# Altium schematic symbol library WE-LQS.SchLib: 214 symbols (part 3 of 4)
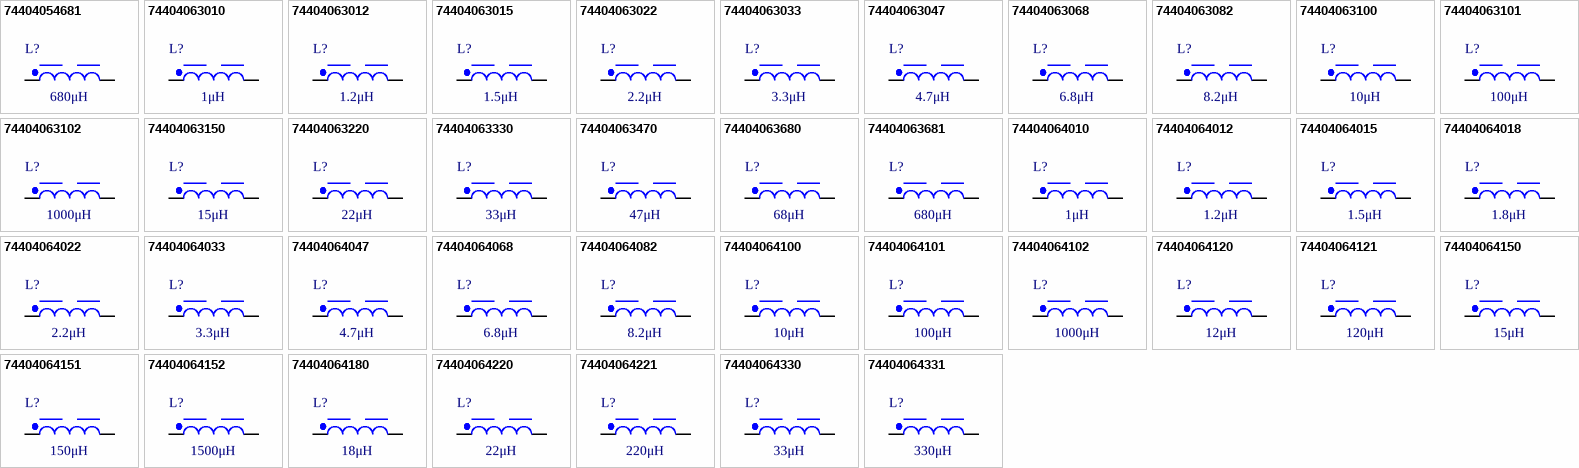
[diagram p7: symbols 74404054681 to 74404064331]

## 74404054681
designator L?, comment 680μH
WE-LQS SMT Power Inductor, size 5040, 680μH, 3.98Ω; Manufacturer Part Number: 74404054681; Manufacturer: Wurth Elektronik; Case/Size Code: 5040; Rated Current: 0.25A; Saturation Current: 0.3A; Self Resonant Frequency: 2.3MHz; Category: Power Inductors; Match Code: WE-LQS; ComponentLink1Description: Website Link; ComponentLink1URL: https://www.we-online.com/redexpert/article/74404054681?ad; ComponentLink2Description: Datasheet Link; ComponentLink2URL: https://www.we-online.com/redexpert/spec/74404054681?ad; Mount: Surface Mount; Min Operating Temperature: -40°C; Max Operating Temperature: 125°C; Packaging: Tape and Reel; Length: 5mm; Width: 5mm; Height: 4mm; DC Resistance: 3.98Ω; Inductance: 680μH
footprint WE-LQS_5040
simulation model 5040_74404054681_680u
pins: 1, 2

## 74404063010
designator L?, comment 1μH
WE-LQS SMT Power Inductor, size 6028, 1μH, 0.01Ω; Manufacturer Part Number: 74404063010; Manufacturer: Wurth Elektronik; Case/Size Code: 6028; Rated Current: 5.2A; Saturation Current: 7.5A; Self Resonant Frequency: 130MHz; Category: Power Inductors; Match Code: WE-LQS; ComponentLink1Description: Website Link; ComponentLink1URL: https://www.we-online.com/redexpert/article/74404063010?ad; ComponentLink2Description: Datasheet Link; ComponentLink2URL: https://www.we-online.com/redexpert/spec/74404063010?ad; Mount: Surface Mount; Min Operating Temperature: -40°C; Max Operating Temperature: 125°C; Packaging: Tape and Reel; Length: 6mm; Width: 6mm; Height: 2.8mm; DC Resistance: 0.01Ω; Inductance: 1μH
footprint WE-LQS_6028
simulation model 6028_74404063010_1u
pins: 1, 2

## 74404063012
designator L?, comment 1.2μH
WE-LQS SMT Power Inductor, size 6028, 1.2μH, 0.012Ω; Manufacturer Part Number: 74404063012; Manufacturer: Wurth Elektronik; Case/Size Code: 6028; Rated Current: 4.7A; Saturation Current: 7.3A; Self Resonant Frequency: 106MHz; Category: Power Inductors; Match Code: WE-LQS; ComponentLink1Description: Website Link; ComponentLink1URL: https://www.we-online.com/redexpert/article/74404063012?ad; ComponentLink2Description: Datasheet Link; ComponentLink2URL: https://www.we-online.com/redexpert/spec/74404063012?ad; Mount: Surface Mount; Min Operating Temperature: -40°C; Max Operating Temperature: 125°C; Packaging: Tape and Reel; Length: 6mm; Width: 6mm; Height: 2.8mm; DC Resistance: 0.012Ω; Inductance: 1.2μH
footprint WE-LQS_6028
simulation model 6028_74404063012_1.2u
pins: 1, 2

## 74404063015
designator L?, comment 1.5μH
WE-LQS SMT Power Inductor, size 6028, 1.5μH, 0.013Ω; Manufacturer Part Number: 74404063015; Manufacturer: Wurth Elektronik; Case/Size Code: 6028; Rated Current: 4.58A; Saturation Current: 6.6A; Self Resonant Frequency: 98MHz; Category: Power Inductors; Match Code: WE-LQS; ComponentLink1Description: Website Link; ComponentLink1URL: https://www.we-online.com/redexpert/article/74404063015?ad; ComponentLink2Description: Datasheet Link; ComponentLink2URL: https://www.we-online.com/redexpert/spec/74404063015?ad; Mount: Surface Mount; Min Operating Temperature: -40°C; Max Operating Temperature: 125°C; Packaging: Tape and Reel; Length: 6mm; Width: 6mm; Height: 2.8mm; DC Resistance: 0.013Ω; Inductance: 1.5μH
footprint WE-LQS_6028
simulation model 6028_74404063015_1.5u
pins: 1, 2

## 74404063022
designator L?, comment 2.2μH
WE-LQS SMT Power Inductor, size 6028, 2.2μH, 0.02Ω; Manufacturer Part Number: 74404063022; Manufacturer: Wurth Elektronik; Case/Size Code: 6028; Rated Current: 3.75A; Saturation Current: 5.6A; Self Resonant Frequency: 69MHz; Category: Power Inductors; Match Code: WE-LQS; ComponentLink1Description: Website Link; ComponentLink1URL: https://www.we-online.com/redexpert/article/74404063022?ad; ComponentLink2Description: Datasheet Link; ComponentLink2URL: https://www.we-online.com/redexpert/spec/74404063022?ad; Mount: Surface Mount; Min Operating Temperature: -40°C; Max Operating Temperature: 125°C; Packaging: Tape and Reel; Length: 6mm; Width: 6mm; Height: 2.8mm; DC Resistance: 0.02Ω; Inductance: 2.2μH
footprint WE-LQS_6028
simulation model 6028_74404063022_2.2u
pins: 1, 2

## 74404063033
designator L?, comment 3.3μH
WE-LQS SMT Power Inductor, size 6028, 3.3μH, 0.025Ω; Manufacturer Part Number: 74404063033; Manufacturer: Wurth Elektronik; Case/Size Code: 6028; Rated Current: 3.48A; Saturation Current: 4.5A; Self Resonant Frequency: 59MHz; Category: Power Inductors; Match Code: WE-LQS; ComponentLink1Description: Website Link; ComponentLink1URL: https://www.we-online.com/redexpert/article/74404063033?ad; ComponentLink2Description: Datasheet Link; ComponentLink2URL: https://www.we-online.com/redexpert/spec/74404063033?ad; Mount: Surface Mount; Min Operating Temperature: -40°C; Max Operating Temperature: 125°C; Packaging: Tape and Reel; Length: 6mm; Width: 6mm; Height: 2.8mm; DC Resistance: 0.025Ω; Inductance: 3.3μH
footprint WE-LQS_6028
simulation model 6028_74404063033_3.3u
pins: 1, 2

## 74404063047
designator L?, comment 4.7μH
WE-LQS SMT Power Inductor, size 6028, 4.7μH, 0.03Ω; Manufacturer Part Number: 74404063047; Manufacturer: Wurth Elektronik; Case/Size Code: 6028; Rated Current: 3.08A; Saturation Current: 3.3A; Self Resonant Frequency: 50MHz; Category: Power Inductors; Match Code: WE-LQS; ComponentLink1Description: Website Link; ComponentLink1URL: https://www.we-online.com/redexpert/article/74404063047?ad; ComponentLink2Description: Datasheet Link; ComponentLink2URL: https://www.we-online.com/redexpert/spec/74404063047?ad; Mount: Surface Mount; Min Operating Temperature: -40°C; Max Operating Temperature: 125°C; Packaging: Tape and Reel; Length: 6mm; Width: 6mm; Height: 2.8mm; DC Resistance: 0.03Ω; Inductance: 4.7μH
footprint WE-LQS_6028
simulation model 6028_74404063047_4.7u
pins: 1, 2

## 74404063068
designator L?, comment 6.8μH
WE-LQS SMT Power Inductor, size 6028, 6.8μH, 0.047Ω; Manufacturer Part Number: 74404063068; Manufacturer: Wurth Elektronik; Case/Size Code: 6028; Rated Current: 2.4A; Saturation Current: 2.8A; Self Resonant Frequency: 40MHz; Category: Power Inductors; Match Code: WE-LQS; ComponentLink1Description: Website Link; ComponentLink1URL: https://www.we-online.com/redexpert/article/74404063068?ad; ComponentLink2Description: Datasheet Link; ComponentLink2URL: https://www.we-online.com/redexpert/spec/74404063068?ad; Mount: Surface Mount; Min Operating Temperature: -40°C; Max Operating Temperature: 125°C; Packaging: Tape and Reel; Length: 6mm; Width: 6mm; Height: 2.8mm; DC Resistance: 0.047Ω; Inductance: 6.8μH
footprint WE-LQS_6028
simulation model 6028_74404063068_6.8u
pins: 1, 2

## 74404063082
designator L?, comment 8.2μH
WE-LQS SMT Power Inductor, size 6028, 8.2μH, 0.055Ω; Manufacturer Part Number: 74404063082; Manufacturer: Wurth Elektronik; Case/Size Code: 6028; Rated Current: 2.25A; Saturation Current: 2.5A; Self Resonant Frequency: 33MHz; Category: Power Inductors; Match Code: WE-LQS; ComponentLink1Description: Website Link; ComponentLink1URL: https://www.we-online.com/redexpert/article/74404063082?ad; ComponentLink2Description: Datasheet Link; ComponentLink2URL: https://www.we-online.com/redexpert/spec/74404063082?ad; Mount: Surface Mount; Min Operating Temperature: -40°C; Max Operating Temperature: 125°C; Packaging: Tape and Reel; Length: 6mm; Width: 6mm; Height: 2.8mm; DC Resistance: 0.055Ω; Inductance: 8.2μH
footprint WE-LQS_6028
simulation model 6028_74404063082_8.2u
pins: 1, 2

## 74404063100
designator L?, comment 10μH
WE-LQS SMT Power Inductor, size 6028, 10μH, 0.072Ω; Manufacturer Part Number: 74404063100; Manufacturer: Wurth Elektronik; Case/Size Code: 6028; Rated Current: 1.95A; Saturation Current: 2.2A; Self Resonant Frequency: 31MHz; Category: Power Inductors; Match Code: WE-LQS; ComponentLink1Description: Website Link; ComponentLink1URL: https://www.we-online.com/redexpert/article/74404063100?ad; ComponentLink2Description: Datasheet Link; ComponentLink2URL: https://www.we-online.com/redexpert/spec/74404063100?ad; Mount: Surface Mount; Min Operating Temperature: -40°C; Max Operating Temperature: 125°C; Packaging: Tape and Reel; Length: 6mm; Width: 6mm; Height: 2.8mm; DC Resistance: 0.072Ω; Inductance: 10μH
footprint WE-LQS_6028
simulation model 6028_74404063100_10u
pins: 1, 2

## 74404063101
designator L?, comment 100μH
WE-LQS SMT Power Inductor, size 6028, 100μH, 0.5Ω; Manufacturer Part Number: 74404063101; Manufacturer: Wurth Elektronik; Case/Size Code: 6028; Rated Current: 0.7A; Saturation Current: 0.71A; Self Resonant Frequency: 8.8MHz; Category: Power Inductors; Match Code: WE-LQS; ComponentLink1Description: Website Link; ComponentLink1URL: https://www.we-online.com/redexpert/article/74404063101?ad; ComponentLink2Description: Datasheet Link; ComponentLink2URL: https://www.we-online.com/redexpert/spec/74404063101?ad; Mount: Surface Mount; Min Operating Temperature: -40°C; Max Operating Temperature: 125°C; Packaging: Tape and Reel; Length: 6mm; Width: 6mm; Height: 2.8mm; DC Resistance: 0.5Ω; Inductance: 100μH
footprint WE-LQS_6028
simulation model 6028_74404063101_100u
pins: 1, 2

## 74404063102
designator L?, comment 1000μH
WE-LQS SMT Power Inductor, size 6028, 1000μH, 6.44Ω; Manufacturer Part Number: 74404063102; Manufacturer: Wurth Elektronik; Case/Size Code: 6028; Rated Current: 0.22A; Saturation Current: 0.23A; Self Resonant Frequency: 2MHz; Category: Power Inductors; Match Code: WE-LQS; ComponentLink1Description: Website Link; ComponentLink1URL: https://www.we-online.com/redexpert/article/74404063102?ad; ComponentLink2Description: Datasheet Link; ComponentLink2URL: https://www.we-online.com/redexpert/spec/74404063102?ad; Mount: Surface Mount; Min Operating Temperature: -40°C; Max Operating Temperature: 125°C; Packaging: Tape and Reel; Length: 6mm; Width: 6mm; Height: 2.8mm; DC Resistance: 6.44Ω; Inductance: 1000μH
footprint WE-LQS_6028
simulation model 6028_74404063102_1000u
pins: 1, 2

## 74404063150
designator L?, comment 15μH
WE-LQS SMT Power Inductor, size 6028, 15μH, 0.125Ω; Manufacturer Part Number: 74404063150; Manufacturer: Wurth Elektronik; Case/Size Code: 6028; Rated Current: 1.45A; Saturation Current: 1.9A; Self Resonant Frequency: 24MHz; Category: Power Inductors; Match Code: WE-LQS; ComponentLink1Description: Website Link; ComponentLink1URL: https://www.we-online.com/redexpert/article/74404063150?ad; ComponentLink2Description: Datasheet Link; ComponentLink2URL: https://www.we-online.com/redexpert/spec/74404063150?ad; Mount: Surface Mount; Min Operating Temperature: -40°C; Max Operating Temperature: 125°C; Packaging: Tape and Reel; Length: 6mm; Width: 6mm; Height: 2.8mm; DC Resistance: 0.125Ω; Inductance: 15μH
footprint WE-LQS_6028
simulation model 6028_74404063150_15u
pins: 1, 2

## 74404063220
designator L?, comment 22μH
WE-LQS SMT Power Inductor, size 6028, 22μH, 0.14Ω; Manufacturer Part Number: 74404063220; Manufacturer: Wurth Elektronik; Case/Size Code: 6028; Rated Current: 1.4A; Saturation Current: 1.6A; Self Resonant Frequency: 21MHz; Category: Power Inductors; Match Code: WE-LQS; ComponentLink1Description: Website Link; ComponentLink1URL: https://www.we-online.com/redexpert/article/74404063220?ad; ComponentLink2Description: Datasheet Link; ComponentLink2URL: https://www.we-online.com/redexpert/spec/74404063220?ad; Mount: Surface Mount; Min Operating Temperature: -40°C; Max Operating Temperature: 125°C; Packaging: Tape and Reel; Length: 6mm; Width: 6mm; Height: 2.8mm; DC Resistance: 0.14Ω; Inductance: 22μH
footprint WE-LQS_6028
simulation model 6028_74404063220_22u
pins: 1, 2

## 74404063330
designator L?, comment 33μH
WE-LQS SMT Power Inductor, size 6028, 33μH, 0.185Ω; Manufacturer Part Number: 74404063330; Manufacturer: Wurth Elektronik; Case/Size Code: 6028; Rated Current: 1.22A; Saturation Current: 1.5A; Self Resonant Frequency: 16MHz; Category: Power Inductors; Match Code: WE-LQS; ComponentLink1Description: Website Link; ComponentLink1URL: https://www.we-online.com/redexpert/article/74404063330?ad; ComponentLink2Description: Datasheet Link; ComponentLink2URL: https://www.we-online.com/redexpert/spec/74404063330?ad; Mount: Surface Mount; Min Operating Temperature: -40°C; Max Operating Temperature: 125°C; Packaging: Tape and Reel; Length: 6mm; Width: 6mm; Height: 2.8mm; DC Resistance: 0.185Ω; Inductance: 33μH
footprint WE-LQS_6028
simulation model 6028_74404063330_33u
pins: 1, 2

## 74404063470
designator L?, comment 47μH
WE-LQS SMT Power Inductor, size 6028, 47μH, 0.315Ω; Manufacturer Part Number: 74404063470; Manufacturer: Wurth Elektronik; Case/Size Code: 6028; Rated Current: 1.06A; Saturation Current: 1.3A; Self Resonant Frequency: 14MHz; Category: Power Inductors; Match Code: WE-LQS; ComponentLink1Description: Website Link; ComponentLink1URL: https://www.we-online.com/redexpert/article/74404063470?ad; ComponentLink2Description: Datasheet Link; ComponentLink2URL: https://www.we-online.com/redexpert/spec/74404063470?ad; Mount: Surface Mount; Min Operating Temperature: -40°C; Max Operating Temperature: 125°C; Packaging: Tape and Reel; Length: 6mm; Width: 6mm; Height: 2.8mm; DC Resistance: 0.315Ω; Inductance: 47μH
footprint WE-LQS_6028
simulation model 6028_74404063470_47u
pins: 1, 2

## 74404063680
designator L?, comment 68μH
WE-LQS SMT Power Inductor, size 6028, 68μH, 0.36Ω; Manufacturer Part Number: 74404063680; Manufacturer: Wurth Elektronik; Case/Size Code: 6028; Rated Current: 0.86A; Saturation Current: 0.88A; Self Resonant Frequency: 11MHz; Category: Power Inductors; Match Code: WE-LQS; ComponentLink1Description: Website Link; ComponentLink1URL: https://www.we-online.com/redexpert/article/74404063680?ad; ComponentLink2Description: Datasheet Link; ComponentLink2URL: https://www.we-online.com/redexpert/spec/74404063680?ad; Mount: Surface Mount; Min Operating Temperature: -40°C; Max Operating Temperature: 125°C; Packaging: Tape and Reel; Length: 6mm; Width: 6mm; Height: 2.8mm; DC Resistance: 0.36Ω; Inductance: 68μH
footprint WE-LQS_6028
simulation model 6028_74404063680_68u
pins: 1, 2

## 74404063681
designator L?, comment 680μH
WE-LQS SMT Power Inductor, size 6028, 680μH, 5.526Ω; Manufacturer Part Number: 74404063681; Manufacturer: Wurth Elektronik; Case/Size Code: 6028; Rated Current: 0.27A; Saturation Current: 0.29A; Self Resonant Frequency: 3MHz; Category: Power Inductors; Match Code: WE-LQS; ComponentLink1Description: Website Link; ComponentLink1URL: https://www.we-online.com/redexpert/article/74404063681?ad; ComponentLink2Description: Datasheet Link; ComponentLink2URL: https://www.we-online.com/redexpert/spec/74404063681?ad; Mount: Surface Mount; Min Operating Temperature: -40°C; Max Operating Temperature: 125°C; Packaging: Tape and Reel; Length: 6mm; Width: 6mm; Height: 2.8mm; DC Resistance: 5.526Ω; Inductance: 680μH
footprint WE-LQS_6028
simulation model 6028_74404063681_680u
pins: 1, 2

## 74404064010
designator L?, comment 1μH
WE-LQS SMT Power Inductor, size 6045, 1μH, 0.011Ω; Manufacturer Part Number: 74404064010; Manufacturer: Wurth Elektronik; Case/Size Code: 6045; Rated Current: 5.9A; Saturation Current: 11.5A; Self Resonant Frequency: 159MHz; Category: Power Inductors; Match Code: WE-LQS; ComponentLink1Description: Website Link; ComponentLink1URL: https://www.we-online.com/redexpert/article/74404064010?ad; ComponentLink2Description: Datasheet Link; ComponentLink2URL: https://www.we-online.com/redexpert/spec/74404064010?ad; Mount: Surface Mount; Min Operating Temperature: -40°C; Max Operating Temperature: 125°C; Packaging: Tape and Reel; Length: 6mm; Width: 6mm; Height: 4.5mm; DC Resistance: 0.011Ω; Inductance: 1μH
footprint WE-LQS_6045
simulation model 6045_74404064010_1u
pins: 1, 2

## 74404064012
designator L?, comment 1.2μH
WE-LQS SMT Power Inductor, size 6045, 1.2μH, 0.01Ω; Manufacturer Part Number: 74404064012; Manufacturer: Wurth Elektronik; Case/Size Code: 6045; Rated Current: 6.25A; Saturation Current: 10.2A; Self Resonant Frequency: 121MHz; Category: Power Inductors; Match Code: WE-LQS; ComponentLink1Description: Website Link; ComponentLink1URL: https://www.we-online.com/redexpert/article/74404064012?ad; ComponentLink2Description: Datasheet Link; ComponentLink2URL: https://www.we-online.com/redexpert/spec/74404064012?ad; Mount: Surface Mount; Min Operating Temperature: -40°C; Max Operating Temperature: 125°C; Packaging: Tape and Reel; Length: 6mm; Width: 6mm; Height: 4.5mm; DC Resistance: 0.01Ω; Inductance: 1.2μH
footprint WE-LQS_6045
simulation model 6045_74404064012_1.2u
pins: 1, 2

## 74404064015
designator L?, comment 1.5μH
WE-LQS SMT Power Inductor, size 6045, 1.5μH, 0.012Ω; Manufacturer Part Number: 74404064015; Manufacturer: Wurth Elektronik; Case/Size Code: 6045; Rated Current: 6.2A; Saturation Current: 9.7A; Self Resonant Frequency: 115MHz; Category: Power Inductors; Match Code: WE-LQS; ComponentLink1Description: Website Link; ComponentLink1URL: https://www.we-online.com/redexpert/article/74404064015?ad; ComponentLink2Description: Datasheet Link; ComponentLink2URL: https://www.we-online.com/redexpert/spec/74404064015?ad; Mount: Surface Mount; Min Operating Temperature: -40°C; Max Operating Temperature: 125°C; Packaging: Tape and Reel; Length: 6mm; Width: 6mm; Height: 4.5mm; DC Resistance: 0.012Ω; Inductance: 1.5μH
footprint WE-LQS_6045
simulation model 6045_74404064015_1.5u
pins: 1, 2

## 74404064018
designator L?, comment 1.8μH
WE-LQS SMT Power Inductor, size 6045, 1.8μH, 0.012Ω; Manufacturer Part Number: 74404064018; Manufacturer: Wurth Elektronik; Case/Size Code: 6045; Rated Current: 5.8A; Saturation Current: 8.5A; Self Resonant Frequency: 79MHz; Category: Power Inductors; Match Code: WE-LQS; ComponentLink1Description: Website Link; ComponentLink1URL: https://www.we-online.com/redexpert/article/74404064018?ad; ComponentLink2Description: Datasheet Link; ComponentLink2URL: https://www.we-online.com/redexpert/spec/74404064018?ad; Mount: Surface Mount; Min Operating Temperature: -40°C; Max Operating Temperature: 125°C; Packaging: Tape and Reel; Length: 6mm; Width: 6mm; Height: 4.5mm; DC Resistance: 0.012Ω; Inductance: 1.8μH
footprint WE-LQS_6045
simulation model 6045_74404064018_1.8u
pins: 1, 2

## 74404064022
designator L?, comment 2.2μH
WE-LQS SMT Power Inductor, size 6045, 2.2μH, 0.014Ω; Manufacturer Part Number: 74404064022; Manufacturer: Wurth Elektronik; Case/Size Code: 6045; Rated Current: 5.4A; Saturation Current: 7.5A; Self Resonant Frequency: 60MHz; Category: Power Inductors; Match Code: WE-LQS; ComponentLink1Description: Website Link; ComponentLink1URL: https://www.we-online.com/redexpert/article/74404064022?ad; ComponentLink2Description: Datasheet Link; ComponentLink2URL: https://www.we-online.com/redexpert/spec/74404064022?ad; Mount: Surface Mount; Min Operating Temperature: -40°C; Max Operating Temperature: 125°C; Packaging: Tape and Reel; Length: 6mm; Width: 6mm; Height: 4.5mm; DC Resistance: 0.014Ω; Inductance: 2.2μH
footprint WE-LQS_6045
simulation model 6045_74404064022_2.2u
pins: 1, 2

## 74404064033
designator L?, comment 3.3μH
WE-LQS SMT Power Inductor, size 6045, 3.3μH, 0.021Ω; Manufacturer Part Number: 74404064033; Manufacturer: Wurth Elektronik; Case/Size Code: 6045; Rated Current: 4.2A; Saturation Current: 6.5A; Self Resonant Frequency: 42MHz; Category: Power Inductors; Match Code: WE-LQS; ComponentLink1Description: Website Link; ComponentLink1URL: https://www.we-online.com/redexpert/article/74404064033?ad; ComponentLink2Description: Datasheet Link; ComponentLink2URL: https://www.we-online.com/redexpert/spec/74404064033?ad; Mount: Surface Mount; Min Operating Temperature: -40°C; Max Operating Temperature: 125°C; Packaging: Tape and Reel; Length: 6mm; Width: 6mm; Height: 4.5mm; DC Resistance: 0.021Ω; Inductance: 3.3μH
footprint WE-LQS_6045
simulation model 6045_74404064033_3.3u
pins: 1, 2

## 74404064047
designator L?, comment 4.7μH
WE-LQS SMT Power Inductor, size 6045, 4.7μH, 0.026Ω; Manufacturer Part Number: 74404064047; Manufacturer: Wurth Elektronik; Case/Size Code: 6045; Rated Current: 3.85A; Saturation Current: 5.5A; Self Resonant Frequency: 36MHz; Category: Power Inductors; Match Code: WE-LQS; ComponentLink1Description: Website Link; ComponentLink1URL: https://www.we-online.com/redexpert/article/74404064047?ad; ComponentLink2Description: Datasheet Link; ComponentLink2URL: https://www.we-online.com/redexpert/spec/74404064047?ad; Mount: Surface Mount; Min Operating Temperature: -40°C; Max Operating Temperature: 125°C; Packaging: Tape and Reel; Length: 6mm; Width: 6mm; Height: 4.5mm; DC Resistance: 0.026Ω; Inductance: 4.7μH
footprint WE-LQS_6045
simulation model 6045_74404064047_4.7u
pins: 1, 2

## 74404064068
designator L?, comment 6.8μH
WE-LQS SMT Power Inductor, size 6045, 6.8μH, 0.031Ω; Manufacturer Part Number: 74404064068; Manufacturer: Wurth Elektronik; Case/Size Code: 6045; Rated Current: 3.2A; Saturation Current: 4.3A; Self Resonant Frequency: 27MHz; Category: Power Inductors; Match Code: WE-LQS; ComponentLink1Description: Website Link; ComponentLink1URL: https://www.we-online.com/redexpert/article/74404064068?ad; ComponentLink2Description: Datasheet Link; ComponentLink2URL: https://www.we-online.com/redexpert/spec/74404064068?ad; Mount: Surface Mount; Min Operating Temperature: -40°C; Max Operating Temperature: 125°C; Packaging: Tape and Reel; Length: 6mm; Width: 6mm; Height: 4.5mm; DC Resistance: 0.031Ω; Inductance: 6.8μH
footprint WE-LQS_6045
simulation model 6045_74404064068_6.8u
pins: 1, 2

## 74404064082
designator L?, comment 8.2μH
WE-LQS SMT Power Inductor, size 6045, 8.2μH, 0.043Ω; Manufacturer Part Number: 74404064082; Manufacturer: Wurth Elektronik; Case/Size Code: 6045; Rated Current: 3A; Saturation Current: 4.3A; Self Resonant Frequency: 25MHz; Category: Power Inductors; Match Code: WE-LQS; ComponentLink1Description: Website Link; ComponentLink1URL: https://www.we-online.com/redexpert/article/74404064082?ad; ComponentLink2Description: Datasheet Link; ComponentLink2URL: https://www.we-online.com/redexpert/spec/74404064082?ad; Mount: Surface Mount; Min Operating Temperature: -40°C; Max Operating Temperature: 125°C; Packaging: Tape and Reel; Length: 6mm; Width: 6mm; Height: 4.5mm; DC Resistance: 0.043Ω; Inductance: 8.2μH
footprint WE-LQS_6045
simulation model 6045_74404064082_8.2u
pins: 1, 2

## 74404064100
designator L?, comment 10μH
WE-LQS SMT Power Inductor, size 6045, 10μH, 0.048Ω; Manufacturer Part Number: 74404064100; Manufacturer: Wurth Elektronik; Case/Size Code: 6045; Rated Current: 2.85A; Saturation Current: 3.5A; Self Resonant Frequency: 22MHz; Category: Power Inductors; Match Code: WE-LQS; ComponentLink1Description: Website Link; ComponentLink1URL: https://www.we-online.com/redexpert/article/74404064100?ad; ComponentLink2Description: Datasheet Link; ComponentLink2URL: https://www.we-online.com/redexpert/spec/74404064100?ad; Mount: Surface Mount; Min Operating Temperature: -40°C; Max Operating Temperature: 125°C; Packaging: Tape and Reel; Length: 6mm; Width: 6mm; Height: 4.5mm; DC Resistance: 0.048Ω; Inductance: 10μH
footprint WE-LQS_6045
simulation model 6045_74404064100_10u
pins: 1, 2

## 74404064101
designator L?, comment 100μH
WE-LQS SMT Power Inductor, size 6045, 100μH, 0.433Ω; Manufacturer Part Number: 74404064101; Manufacturer: Wurth Elektronik; Case/Size Code: 6045; Rated Current: 1A; Saturation Current: 1.2A; Self Resonant Frequency: 6.3MHz; Category: Power Inductors; Match Code: WE-LQS; ComponentLink1Description: Website Link; ComponentLink1URL: https://www.we-online.com/redexpert/article/74404064101?ad; ComponentLink2Description: Datasheet Link; ComponentLink2URL: https://www.we-online.com/redexpert/spec/74404064101?ad; Mount: Surface Mount; Min Operating Temperature: -40°C; Max Operating Temperature: 125°C; Packaging: Tape and Reel; Length: 6mm; Width: 6mm; Height: 4.5mm; DC Resistance: 0.433Ω; Inductance: 100μH
footprint WE-LQS_6045
simulation model 6045_74404064101_100u
pins: 1, 2

## 74404064102
designator L?, comment 1000μH
WE-LQS SMT Power Inductor, size 6045, 1000μH, 4.783Ω; Manufacturer Part Number: 74404064102; Manufacturer: Wurth Elektronik; Case/Size Code: 6045; Rated Current: 0.3A; Saturation Current: 0.37A; Self Resonant Frequency: 1.86MHz; Category: Power Inductors; Match Code: WE-LQS; ComponentLink1Description: Website Link; ComponentLink1URL: https://www.we-online.com/redexpert/article/74404064102?ad; ComponentLink2Description: Datasheet Link; ComponentLink2URL: https://www.we-online.com/redexpert/spec/74404064102?ad; Mount: Surface Mount; Min Operating Temperature: -40°C; Max Operating Temperature: 125°C; Packaging: Tape and Reel; Length: 6mm; Width: 6mm; Height: 4.5mm; DC Resistance: 4.783Ω; Inductance: 1000μH
footprint WE-LQS_6045
simulation model 6045_74404064102_1000u
pins: 1, 2

## 74404064120
designator L?, comment 12μH
WE-LQS SMT Power Inductor, size 6045, 12μH, 0.058Ω; Manufacturer Part Number: 74404064120; Manufacturer: Wurth Elektronik; Case/Size Code: 6045; Rated Current: 2.6A; Saturation Current: 3.3A; Self Resonant Frequency: 21MHz; Category: Power Inductors; Match Code: WE-LQS; ComponentLink1Description: Website Link; ComponentLink1URL: https://www.we-online.com/redexpert/article/74404064120?ad; ComponentLink2Description: Datasheet Link; ComponentLink2URL: https://www.we-online.com/redexpert/spec/74404064120?ad; Mount: Surface Mount; Min Operating Temperature: -40°C; Max Operating Temperature: 125°C; Packaging: Tape and Reel; Length: 6mm; Width: 6mm; Height: 4.5mm; DC Resistance: 0.058Ω; Inductance: 12μH
footprint WE-LQS_6045
simulation model 6045_74404064120_12u
pins: 1, 2

## 74404064121
designator L?, comment 120μH
WE-LQS SMT Power Inductor, size 6045, 120μH, 0.52Ω; Manufacturer Part Number: 74404064121; Manufacturer: Wurth Elektronik; Case/Size Code: 6045; Rated Current: 0.85A; Saturation Current: 1A; Self Resonant Frequency: 5.78MHz; Category: Power Inductors; Match Code: WE-LQS; ComponentLink1Description: Website Link; ComponentLink1URL: https://www.we-online.com/redexpert/article/74404064121?ad; ComponentLink2Description: Datasheet Link; ComponentLink2URL: https://www.we-online.com/redexpert/spec/74404064121?ad; Mount: Surface Mount; Min Operating Temperature: -40°C; Max Operating Temperature: 125°C; Packaging: Tape and Reel; Length: 6mm; Width: 6mm; Height: 4.5mm; DC Resistance: 0.52Ω; Inductance: 120μH
footprint WE-LQS_6045
simulation model 6045_74404064121_120u
pins: 1, 2

## 74404064150
designator L?, comment 15μH
WE-LQS SMT Power Inductor, size 6045, 15μH, 0.068Ω; Manufacturer Part Number: 74404064150; Manufacturer: Wurth Elektronik; Case/Size Code: 6045; Rated Current: 2.45A; Saturation Current: 3A; Self Resonant Frequency: 17MHz; Category: Power Inductors; Match Code: WE-LQS; ComponentLink1Description: Website Link; ComponentLink1URL: https://www.we-online.com/redexpert/article/74404064150?ad; ComponentLink2Description: Datasheet Link; ComponentLink2URL: https://www.we-online.com/redexpert/spec/74404064150?ad; Mount: Surface Mount; Min Operating Temperature: -40°C; Max Operating Temperature: 125°C; Packaging: Tape and Reel; Length: 6mm; Width: 6mm; Height: 4.5mm; DC Resistance: 0.068Ω; Inductance: 15μH
footprint WE-LQS_6045
simulation model 6045_74404064150_15u
pins: 1, 2

## 74404064151
designator L?, comment 150μH
WE-LQS SMT Power Inductor, size 6045, 150μH, 0.57Ω; Manufacturer Part Number: 74404064151; Manufacturer: Wurth Elektronik; Case/Size Code: 6045; Rated Current: 0.84A; Saturation Current: 0.95A; Self Resonant Frequency: 5.4MHz; Category: Power Inductors; Match Code: WE-LQS; ComponentLink1Description: Website Link; ComponentLink1URL: https://www.we-online.com/redexpert/article/74404064151?ad; ComponentLink2Description: Datasheet Link; ComponentLink2URL: https://www.we-online.com/redexpert/spec/74404064151?ad; Mount: Surface Mount; Min Operating Temperature: -40°C; Max Operating Temperature: 125°C; Packaging: Tape and Reel; Length: 6mm; Width: 6mm; Height: 4.5mm; DC Resistance: 0.57Ω; Inductance: 150μH
footprint WE-LQS_6045
simulation model 6045_74404064151_150u
pins: 1, 2

## 74404064152
designator L?, comment 1500μH
WE-LQS SMT Power Inductor, size 6045, 1500μH, 6.989Ω; Manufacturer Part Number: 74404064152; Manufacturer: Wurth Elektronik; Case/Size Code: 6045; Rated Current: 0.21A; Saturation Current: 0.28A; Self Resonant Frequency: 1.32MHz; Category: Power Inductors; Match Code: WE-LQS; ComponentLink1Description: Website Link; ComponentLink1URL: https://www.we-online.com/redexpert/article/74404064152?ad; ComponentLink2Description: Datasheet Link; ComponentLink2URL: https://www.we-online.com/redexpert/spec/74404064152?ad; Mount: Surface Mount; Min Operating Temperature: -40°C; Max Operating Temperature: 125°C; Packaging: Tape and Reel; Length: 6mm; Width: 6mm; Height: 4.5mm; DC Resistance: 6.989Ω; Inductance: 1500μH
footprint WE-LQS_6045
pins: 1, 2

## 74404064180
designator L?, comment 18μH
WE-LQS SMT Power Inductor, size 6045, 18μH, 0.081Ω; Manufacturer Part Number: 74404064180; Manufacturer: Wurth Elektronik; Case/Size Code: 6045; Rated Current: 2.2A; Saturation Current: 2.7A; Self Resonant Frequency: 16MHz; Category: Power Inductors; Match Code: WE-LQS; ComponentLink1Description: Website Link; ComponentLink1URL: https://www.we-online.com/redexpert/article/74404064180?ad; ComponentLink2Description: Datasheet Link; ComponentLink2URL: https://www.we-online.com/redexpert/spec/74404064180?ad; Mount: Surface Mount; Min Operating Temperature: -40°C; Max Operating Temperature: 125°C; Packaging: Tape and Reel; Length: 6mm; Width: 6mm; Height: 4.5mm; DC Resistance: 0.081Ω; Inductance: 18μH
footprint WE-LQS_6045
simulation model 6045_74404064180_18u
pins: 1, 2

## 74404064220
designator L?, comment 22μH
WE-LQS SMT Power Inductor, size 6045, 22μH, 0.089Ω; Manufacturer Part Number: 74404064220; Manufacturer: Wurth Elektronik; Case/Size Code: 6045; Rated Current: 2.1A; Saturation Current: 2.5A; Self Resonant Frequency: 15MHz; Category: Power Inductors; Match Code: WE-LQS; ComponentLink1Description: Website Link; ComponentLink1URL: https://www.we-online.com/redexpert/article/74404064220?ad; ComponentLink2Description: Datasheet Link; ComponentLink2URL: https://www.we-online.com/redexpert/spec/74404064220?ad; Mount: Surface Mount; Min Operating Temperature: -40°C; Max Operating Temperature: 125°C; Packaging: Tape and Reel; Length: 6mm; Width: 6mm; Height: 4.5mm; DC Resistance: 0.089Ω; Inductance: 22μH
footprint WE-LQS_6045
simulation model 6045_74404064220_22u
pins: 1, 2

## 74404064221
designator L?, comment 220μH
WE-LQS SMT Power Inductor, size 6045, 220μH, 0.85Ω; Manufacturer Part Number: 74404064221; Manufacturer: Wurth Elektronik; Case/Size Code: 6045; Rated Current: 0.66A; Saturation Current: 0.75A; Self Resonant Frequency: 3.97MHz; Category: Power Inductors; Match Code: WE-LQS; ComponentLink1Description: Website Link; ComponentLink1URL: https://www.we-online.com/redexpert/article/74404064221?ad; ComponentLink2Description: Datasheet Link; ComponentLink2URL: https://www.we-online.com/redexpert/spec/74404064221?ad; Mount: Surface Mount; Min Operating Temperature: -40°C; Max Operating Temperature: 125°C; Packaging: Tape and Reel; Length: 6mm; Width: 6mm; Height: 4.5mm; DC Resistance: 0.85Ω; Inductance: 220μH
footprint WE-LQS_6045
simulation model 6045_74404064221_220u
pins: 1, 2

## 74404064330
designator L?, comment 33μH
WE-LQS SMT Power Inductor, size 6045, 33μH, 0.137Ω; Manufacturer Part Number: 74404064330; Manufacturer: Wurth Elektronik; Case/Size Code: 6045; Rated Current: 1.8A; Saturation Current: 2A; Self Resonant Frequency: 12MHz; Category: Power Inductors; Match Code: WE-LQS; ComponentLink1Description: Website Link; ComponentLink1URL: https://www.we-online.com/redexpert/article/74404064330?ad; ComponentLink2Description: Datasheet Link; ComponentLink2URL: https://www.we-online.com/redexpert/spec/74404064330?ad; Mount: Surface Mount; Min Operating Temperature: -40°C; Max Operating Temperature: 125°C; Packaging: Tape and Reel; Length: 6mm; Width: 6mm; Height: 4.5mm; DC Resistance: 0.137Ω; Inductance: 33μH
footprint WE-LQS_6045
simulation model 6045_74404064330_33u
pins: 1, 2

## 74404064331
designator L?, comment 330μH
WE-LQS SMT Power Inductor, size 6045, 330μH, 1.177Ω; Manufacturer Part Number: 74404064331; Manufacturer: Wurth Elektronik; Case/Size Code: 6045; Rated Current: 0.58A; Saturation Current: 0.65A; Self Resonant Frequency: 3.42MHz; Category: Power Inductors; Match Code: WE-LQS; ComponentLink1Description: Website Link; ComponentLink1URL: https://www.we-online.com/redexpert/article/74404064331?ad; ComponentLink2Description: Datasheet Link; ComponentLink2URL: https://www.we-online.com/redexpert/spec/74404064331?ad; Mount: Surface Mount; Min Operating Temperature: -40°C; Max Operating Temperature: 125°C; Packaging: Tape and Reel; Length: 6mm; Width: 6mm; Height: 4.5mm; DC Resistance: 1.177Ω; Inductance: 330μH
footprint WE-LQS_6045
simulation model 6045_74404064331_330u
pins: 1, 2

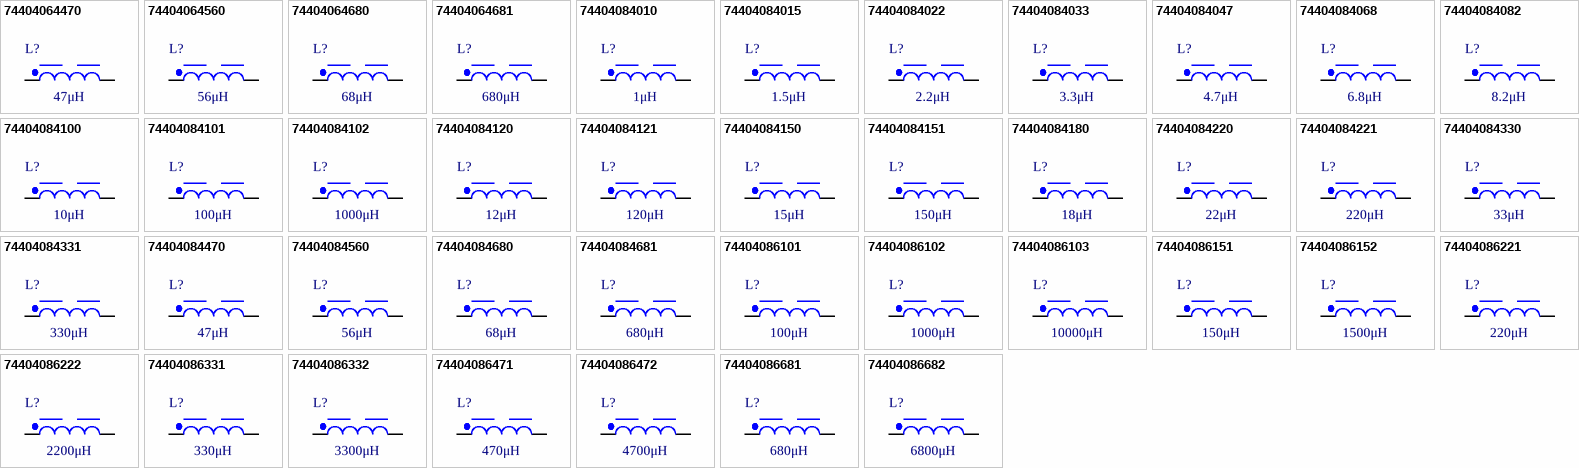
[diagram p4: symbols 74404064470 to 74404086682]

## 74404064470
designator L?, comment 47μH
WE-LQS SMT Power Inductor, size 6045, 47μH, 0.2Ω; Manufacturer Part Number: 74404064470; Manufacturer: Wurth Elektronik; Case/Size Code: 6045; Rated Current: 1.4A; Saturation Current: 1.6A; Self Resonant Frequency: 10MHz; Category: Power Inductors; Match Code: WE-LQS; ComponentLink1Description: Website Link; ComponentLink1URL: https://www.we-online.com/redexpert/article/74404064470?ad; ComponentLink2Description: Datasheet Link; ComponentLink2URL: https://www.we-online.com/redexpert/spec/74404064470?ad; Mount: Surface Mount; Min Operating Temperature: -40°C; Max Operating Temperature: 125°C; Packaging: Tape and Reel; Length: 6mm; Width: 6mm; Height: 4.5mm; DC Resistance: 0.2Ω; Inductance: 47μH
footprint WE-LQS_6045
simulation model 6045_74404064470_47u
pins: 1, 2

## 74404064560
designator L?, comment 56μH
WE-LQS SMT Power Inductor, size 6045, 56μH, 0.22Ω; Manufacturer Part Number: 74404064560; Manufacturer: Wurth Elektronik; Case/Size Code: 6045; Rated Current: 1.3A; Saturation Current: 1.5A; Self Resonant Frequency: 8.3MHz; Category: Power Inductors; Match Code: WE-LQS; ComponentLink1Description: Website Link; ComponentLink1URL: https://www.we-online.com/redexpert/article/74404064560?ad; ComponentLink2Description: Datasheet Link; ComponentLink2URL: https://www.we-online.com/redexpert/spec/74404064560?ad; Mount: Surface Mount; Min Operating Temperature: -40°C; Max Operating Temperature: 125°C; Packaging: Tape and Reel; Length: 6mm; Width: 6mm; Height: 4.5mm; DC Resistance: 0.22Ω; Inductance: 56μH
footprint WE-LQS_6045
simulation model 6045_74404064560_56u
pins: 1, 2

## 74404064680
designator L?, comment 68μH
WE-LQS SMT Power Inductor, size 6045, 68μH, 0.289Ω; Manufacturer Part Number: 74404064680; Manufacturer: Wurth Elektronik; Case/Size Code: 6045; Rated Current: 1.2A; Saturation Current: 1.4A; Self Resonant Frequency: 7.6MHz; Category: Power Inductors; Match Code: WE-LQS; ComponentLink1Description: Website Link; ComponentLink1URL: https://www.we-online.com/redexpert/article/74404064680?ad; ComponentLink2Description: Datasheet Link; ComponentLink2URL: https://www.we-online.com/redexpert/spec/74404064680?ad; Mount: Surface Mount; Min Operating Temperature: -40°C; Max Operating Temperature: 125°C; Packaging: Tape and Reel; Length: 6mm; Width: 6mm; Height: 4.5mm; DC Resistance: 0.289Ω; Inductance: 68μH
footprint WE-LQS_6045
simulation model 6045_74404064680_68u
pins: 1, 2

## 74404064681
designator L?, comment 680μH
WE-LQS SMT Power Inductor, size 6045, 680μH, 2.65Ω; Manufacturer Part Number: 74404064681; Manufacturer: Wurth Elektronik; Case/Size Code: 6045; Rated Current: 0.35A; Saturation Current: 0.42A; Self Resonant Frequency: 1.95MHz; Category: Power Inductors; Match Code: WE-LQS; ComponentLink1Description: Website Link; ComponentLink1URL: https://www.we-online.com/redexpert/article/74404064681?ad; ComponentLink2Description: Datasheet Link; ComponentLink2URL: https://www.we-online.com/redexpert/spec/74404064681?ad; Mount: Surface Mount; Min Operating Temperature: -40°C; Max Operating Temperature: 125°C; Packaging: Tape and Reel; Length: 6mm; Width: 6mm; Height: 4.5mm; DC Resistance: 2.65Ω; Inductance: 680μH
footprint WE-LQS_6045
simulation model 6045_74404064681_680u
pins: 1, 2

## 74404084010
designator L?, comment 1μH
WE-LQS SMT Power Inductor, size 8040, 1μH, 0.008Ω; Manufacturer Part Number: 74404084010; Manufacturer: Wurth Elektronik; Case/Size Code: 8040; Rated Current: 6.3A; Saturation Current: 14.1A; Self Resonant Frequency: 127MHz; Category: Power Inductors; Match Code: WE-LQS; ComponentLink1Description: Website Link; ComponentLink1URL: https://www.we-online.com/redexpert/article/74404084010?ad; ComponentLink2Description: Datasheet Link; ComponentLink2URL: https://www.we-online.com/redexpert/spec/74404084010?ad; Mount: Surface Mount; Min Operating Temperature: -40°C; Max Operating Temperature: 125°C; Packaging: Tape and Reel; Length: 8mm; Width: 8mm; Height: 4.2mm; DC Resistance: 0.008Ω; Inductance: 1μH
footprint WE-LQS_8040
simulation model 8040_74404084010_1u
pins: 1, 2

## 74404084015
designator L?, comment 1.5μH
WE-LQS SMT Power Inductor, size 8040, 1.5μH, 0.01Ω; Manufacturer Part Number: 74404084015; Manufacturer: Wurth Elektronik; Case/Size Code: 8040; Rated Current: 5.65A; Saturation Current: 11.4A; Self Resonant Frequency: 95MHz; Category: Power Inductors; Match Code: WE-LQS; ComponentLink1Description: Website Link; ComponentLink1URL: https://www.we-online.com/redexpert/article/74404084015?ad; ComponentLink2Description: Datasheet Link; ComponentLink2URL: https://www.we-online.com/redexpert/spec/74404084015?ad; Mount: Surface Mount; Min Operating Temperature: -40°C; Max Operating Temperature: 125°C; Packaging: Tape and Reel; Length: 8mm; Width: 8mm; Height: 4.2mm; DC Resistance: 0.01Ω; Inductance: 1.5μH
footprint WE-LQS_8040
simulation model 8040_74404084015_1.5u
pins: 1, 2

## 74404084022
designator L?, comment 2.2μH
WE-LQS SMT Power Inductor, size 8040, 2.2μH, 0.012Ω; Manufacturer Part Number: 74404084022; Manufacturer: Wurth Elektronik; Case/Size Code: 8040; Rated Current: 5.15A; Saturation Current: 9A; Self Resonant Frequency: 57MHz; Category: Power Inductors; Match Code: WE-LQS; ComponentLink1Description: Website Link; ComponentLink1URL: https://www.we-online.com/redexpert/article/74404084022?ad; ComponentLink2Description: Datasheet Link; ComponentLink2URL: https://www.we-online.com/redexpert/spec/74404084022?ad; Mount: Surface Mount; Min Operating Temperature: -40°C; Max Operating Temperature: 125°C; Packaging: Tape and Reel; Length: 8mm; Width: 8mm; Height: 4.2mm; DC Resistance: 0.012Ω; Inductance: 2.2μH
footprint WE-LQS_8040
simulation model 8040_74404084022_2.2u
pins: 1, 2

## 74404084033
designator L?, comment 3.3μH
WE-LQS SMT Power Inductor, size 8040, 3.3μH, 0.017Ω; Manufacturer Part Number: 74404084033; Manufacturer: Wurth Elektronik; Case/Size Code: 8040; Rated Current: 4.4A; Saturation Current: 8A; Self Resonant Frequency: 42MHz; Category: Power Inductors; Match Code: WE-LQS; ComponentLink1Description: Website Link; ComponentLink1URL: https://www.we-online.com/redexpert/article/74404084033?ad; ComponentLink2Description: Datasheet Link; ComponentLink2URL: https://www.we-online.com/redexpert/spec/74404084033?ad; Mount: Surface Mount; Min Operating Temperature: -40°C; Max Operating Temperature: 125°C; Packaging: Tape and Reel; Length: 8mm; Width: 8mm; Height: 4.2mm; DC Resistance: 0.017Ω; Inductance: 3.3μH
footprint WE-LQS_8040
simulation model 8040_74404084033_3.3u
pins: 1, 2

## 74404084047
designator L?, comment 4.7μH
WE-LQS SMT Power Inductor, size 8040, 4.7μH, 0.019Ω; Manufacturer Part Number: 74404084047; Manufacturer: Wurth Elektronik; Case/Size Code: 8040; Rated Current: 4.1A; Saturation Current: 7A; Self Resonant Frequency: 30MHz; Category: Power Inductors; Match Code: WE-LQS; ComponentLink1Description: Website Link; ComponentLink1URL: https://www.we-online.com/redexpert/article/74404084047?ad; ComponentLink2Description: Datasheet Link; ComponentLink2URL: https://www.we-online.com/redexpert/spec/74404084047?ad; Mount: Surface Mount; Min Operating Temperature: -40°C; Max Operating Temperature: 125°C; Packaging: Tape and Reel; Length: 8mm; Width: 8mm; Height: 4.2mm; DC Resistance: 0.019Ω; Inductance: 4.7μH
footprint WE-LQS_8040
simulation model 8040_74404084047_4.7u
pins: 1, 2

## 74404084068
designator L?, comment 6.8μH
WE-LQS SMT Power Inductor, size 8040, 6.8μH, 0.024Ω; Manufacturer Part Number: 74404084068; Manufacturer: Wurth Elektronik; Case/Size Code: 8040; Rated Current: 3.6A; Saturation Current: 5.5A; Self Resonant Frequency: 27MHz; Category: Power Inductors; Match Code: WE-LQS; ComponentLink1Description: Website Link; ComponentLink1URL: https://www.we-online.com/redexpert/article/74404084068?ad; ComponentLink2Description: Datasheet Link; ComponentLink2URL: https://www.we-online.com/redexpert/spec/74404084068?ad; Mount: Surface Mount; Min Operating Temperature: -40°C; Max Operating Temperature: 125°C; Packaging: Tape and Reel; Length: 8mm; Width: 8mm; Height: 4.2mm; DC Resistance: 0.024Ω; Inductance: 6.8μH
footprint WE-LQS_8040
simulation model 8040_74404084068_6.8u
pins: 1, 2

## 74404084082
designator L?, comment 8.2μH
WE-LQS SMT Power Inductor, size 8040, 8.2μH, 0.026Ω; Manufacturer Part Number: 74404084082; Manufacturer: Wurth Elektronik; Case/Size Code: 8040; Rated Current: 3.45A; Saturation Current: 5A; Self Resonant Frequency: 25MHz; Category: Power Inductors; Match Code: WE-LQS; ComponentLink1Description: Website Link; ComponentLink1URL: https://www.we-online.com/redexpert/article/74404084082?ad; ComponentLink2Description: Datasheet Link; ComponentLink2URL: https://www.we-online.com/redexpert/spec/74404084082?ad; Mount: Surface Mount; Min Operating Temperature: -40°C; Max Operating Temperature: 125°C; Packaging: Tape and Reel; Length: 8mm; Width: 8mm; Height: 4.2mm; DC Resistance: 0.026Ω; Inductance: 8.2μH
footprint WE-LQS_8040
simulation model 8040_74404084082_8.2u
pins: 1, 2

## 74404084100
designator L?, comment 10μH
WE-LQS SMT Power Inductor, size 8040, 10μH, 0.029Ω; Manufacturer Part Number: 74404084100; Manufacturer: Wurth Elektronik; Case/Size Code: 8040; Rated Current: 3.3A; Saturation Current: 4.5A; Self Resonant Frequency: 23MHz; Category: Power Inductors; Match Code: WE-LQS; ComponentLink1Description: Website Link; ComponentLink1URL: https://www.we-online.com/redexpert/article/74404084100?ad; ComponentLink2Description: Datasheet Link; ComponentLink2URL: https://www.we-online.com/redexpert/spec/74404084100?ad; Mount: Surface Mount; Min Operating Temperature: -40°C; Max Operating Temperature: 125°C; Packaging: Tape and Reel; Length: 8mm; Width: 8mm; Height: 4.2mm; DC Resistance: 0.029Ω; Inductance: 10μH
footprint WE-LQS_8040
simulation model 8040_74404084100_10u
pins: 1, 2

## 74404084101
designator L?, comment 100μH
WE-LQS SMT Power Inductor, size 8040, 100μH, 0.29Ω; Manufacturer Part Number: 74404084101; Manufacturer: Wurth Elektronik; Case/Size Code: 8040; Rated Current: 1.2A; Saturation Current: 1.5A; Self Resonant Frequency: 6.4MHz; Category: Power Inductors; Match Code: WE-LQS; ComponentLink1Description: Website Link; ComponentLink1URL: https://www.we-online.com/redexpert/article/74404084101?ad; ComponentLink2Description: Datasheet Link; ComponentLink2URL: https://www.we-online.com/redexpert/spec/74404084101?ad; Mount: Surface Mount; Min Operating Temperature: -40°C; Max Operating Temperature: 125°C; Packaging: Tape and Reel; Length: 8mm; Width: 8mm; Height: 4.2mm; DC Resistance: 0.29Ω; Inductance: 100μH
footprint WE-LQS_8040
simulation model 8040_74404084101_100u
pins: 1, 2

## 74404084102
designator L?, comment 1000μH
WE-LQS SMT Power Inductor, size 8040, 1000μH, 2.87Ω; Manufacturer Part Number: 74404084102; Manufacturer: Wurth Elektronik; Case/Size Code: 8040; Rated Current: 0.36A; Saturation Current: 0.45A; Self Resonant Frequency: 2MHz; Category: Power Inductors; Match Code: WE-LQS; ComponentLink1Description: Website Link; ComponentLink1URL: https://www.we-online.com/redexpert/article/74404084102?ad; ComponentLink2Description: Datasheet Link; ComponentLink2URL: https://www.we-online.com/redexpert/spec/74404084102?ad; Mount: Surface Mount; Min Operating Temperature: -40°C; Max Operating Temperature: 125°C; Packaging: Tape and Reel; Length: 8mm; Width: 8mm; Height: 4.2mm; DC Resistance: 2.87Ω; Inductance: 1000μH
footprint WE-LQS_8040
simulation model 8040_74404084102_1000u
pins: 1, 2

## 74404084120
designator L?, comment 12μH
WE-LQS SMT Power Inductor, size 8040, 12μH, 0.04Ω; Manufacturer Part Number: 74404084120; Manufacturer: Wurth Elektronik; Case/Size Code: 8040; Rated Current: 2.8A; Saturation Current: 4.2A; Self Resonant Frequency: 21MHz; Category: Power Inductors; Match Code: WE-LQS; ComponentLink1Description: Website Link; ComponentLink1URL: https://www.we-online.com/redexpert/article/74404084120?ad; ComponentLink2Description: Datasheet Link; ComponentLink2URL: https://www.we-online.com/redexpert/spec/74404084120?ad; Mount: Surface Mount; Min Operating Temperature: -40°C; Max Operating Temperature: 125°C; Packaging: Tape and Reel; Length: 8mm; Width: 8mm; Height: 4.2mm; DC Resistance: 0.04Ω; Inductance: 12μH
footprint WE-LQS_8040
simulation model 8040_74404084120_12u
pins: 1, 2

## 74404084121
designator L?, comment 120μH
WE-LQS SMT Power Inductor, size 8040, 120μH, 0.347Ω; Manufacturer Part Number: 74404084121; Manufacturer: Wurth Elektronik; Case/Size Code: 8040; Rated Current: 1.15A; Saturation Current: 1.45A; Self Resonant Frequency: 6MHz; Category: Power Inductors; Match Code: WE-LQS; ComponentLink1Description: Website Link; ComponentLink1URL: https://www.we-online.com/redexpert/article/74404084121?ad; ComponentLink2Description: Datasheet Link; ComponentLink2URL: https://www.we-online.com/redexpert/spec/74404084121?ad; Mount: Surface Mount; Min Operating Temperature: -40°C; Max Operating Temperature: 125°C; Packaging: Tape and Reel; Length: 8mm; Width: 8mm; Height: 4.2mm; DC Resistance: 0.347Ω; Inductance: 120μH
footprint WE-LQS_8040
simulation model 8040_74404084121_120u
pins: 1, 2

## 74404084150
designator L?, comment 15μH
WE-LQS SMT Power Inductor, size 8040, 15μH, 0.047Ω; Manufacturer Part Number: 74404084150; Manufacturer: Wurth Elektronik; Case/Size Code: 8040; Rated Current: 2.6A; Saturation Current: 3.7A; Self Resonant Frequency: 17MHz; Category: Power Inductors; Match Code: WE-LQS; ComponentLink1Description: Website Link; ComponentLink1URL: https://www.we-online.com/redexpert/article/74404084150?ad; ComponentLink2Description: Datasheet Link; ComponentLink2URL: https://www.we-online.com/redexpert/spec/74404084150?ad; Mount: Surface Mount; Min Operating Temperature: -40°C; Max Operating Temperature: 125°C; Packaging: Tape and Reel; Length: 8mm; Width: 8mm; Height: 4.2mm; DC Resistance: 0.047Ω; Inductance: 15μH
footprint WE-LQS_8040
simulation model 8040_74404084150_15u
pins: 1, 2

## 74404084151
designator L?, comment 150μH
WE-LQS SMT Power Inductor, size 8040, 150μH, 0.478Ω; Manufacturer Part Number: 74404084151; Manufacturer: Wurth Elektronik; Case/Size Code: 8040; Rated Current: 0.91A; Saturation Current: 1.25A; Self Resonant Frequency: 5.31MHz; Category: Power Inductors; Match Code: WE-LQS; ComponentLink1Description: Website Link; ComponentLink1URL: https://www.we-online.com/redexpert/article/74404084151?ad; ComponentLink2Description: Datasheet Link; ComponentLink2URL: https://www.we-online.com/redexpert/spec/74404084151?ad; Mount: Surface Mount; Min Operating Temperature: -40°C; Max Operating Temperature: 125°C; Packaging: Tape and Reel; Length: 8mm; Width: 8mm; Height: 4.2mm; DC Resistance: 0.478Ω; Inductance: 150μH
footprint WE-LQS_8040
simulation model 8040_74404084151_150u
pins: 1, 2

## 74404084180
designator L?, comment 18μH
WE-LQS SMT Power Inductor, size 8040, 18μH, 0.053Ω; Manufacturer Part Number: 74404084180; Manufacturer: Wurth Elektronik; Case/Size Code: 8040; Rated Current: 2.4A; Saturation Current: 3.2A; Self Resonant Frequency: 16.5MHz; Category: Power Inductors; Match Code: WE-LQS; ComponentLink1Description: Website Link; ComponentLink1URL: https://www.we-online.com/redexpert/article/74404084180?ad; ComponentLink2Description: Datasheet Link; ComponentLink2URL: https://www.we-online.com/redexpert/spec/74404084180?ad; Mount: Surface Mount; Min Operating Temperature: -40°C; Max Operating Temperature: 125°C; Packaging: Tape and Reel; Length: 8mm; Width: 8mm; Height: 4.2mm; DC Resistance: 0.053Ω; Inductance: 18μH
footprint WE-LQS_8040
simulation model 8040_74404084180_18u
pins: 1, 2

## 74404084220
designator L?, comment 22μH
WE-LQS SMT Power Inductor, size 8040, 22μH, 0.069Ω; Manufacturer Part Number: 74404084220; Manufacturer: Wurth Elektronik; Case/Size Code: 8040; Rated Current: 2.1A; Saturation Current: 3A; Self Resonant Frequency: 15MHz; Category: Power Inductors; Match Code: WE-LQS; ComponentLink1Description: Website Link; ComponentLink1URL: https://www.we-online.com/redexpert/article/74404084220?ad; ComponentLink2Description: Datasheet Link; ComponentLink2URL: https://www.we-online.com/redexpert/spec/74404084220?ad; Mount: Surface Mount; Min Operating Temperature: -40°C; Max Operating Temperature: 125°C; Packaging: Tape and Reel; Length: 8mm; Width: 8mm; Height: 4.2mm; DC Resistance: 0.069Ω; Inductance: 22μH
footprint WE-LQS_8040
simulation model 8040_74404084220_22u
pins: 1, 2